# Altium footprint library 2Leonardo_PCB.PcbLib: 26 footprints (part 1 of 2)
Each footprint in its own frame and in the unit in brackets; x right, y up, seen from the top. Pads: shape width x height; smd on the part's side, far side on the other; paste and mask are expansions set on the pad; w line width, h text height; cw(c..) or ccw(c..) is an arc to the next point about the centre after c.
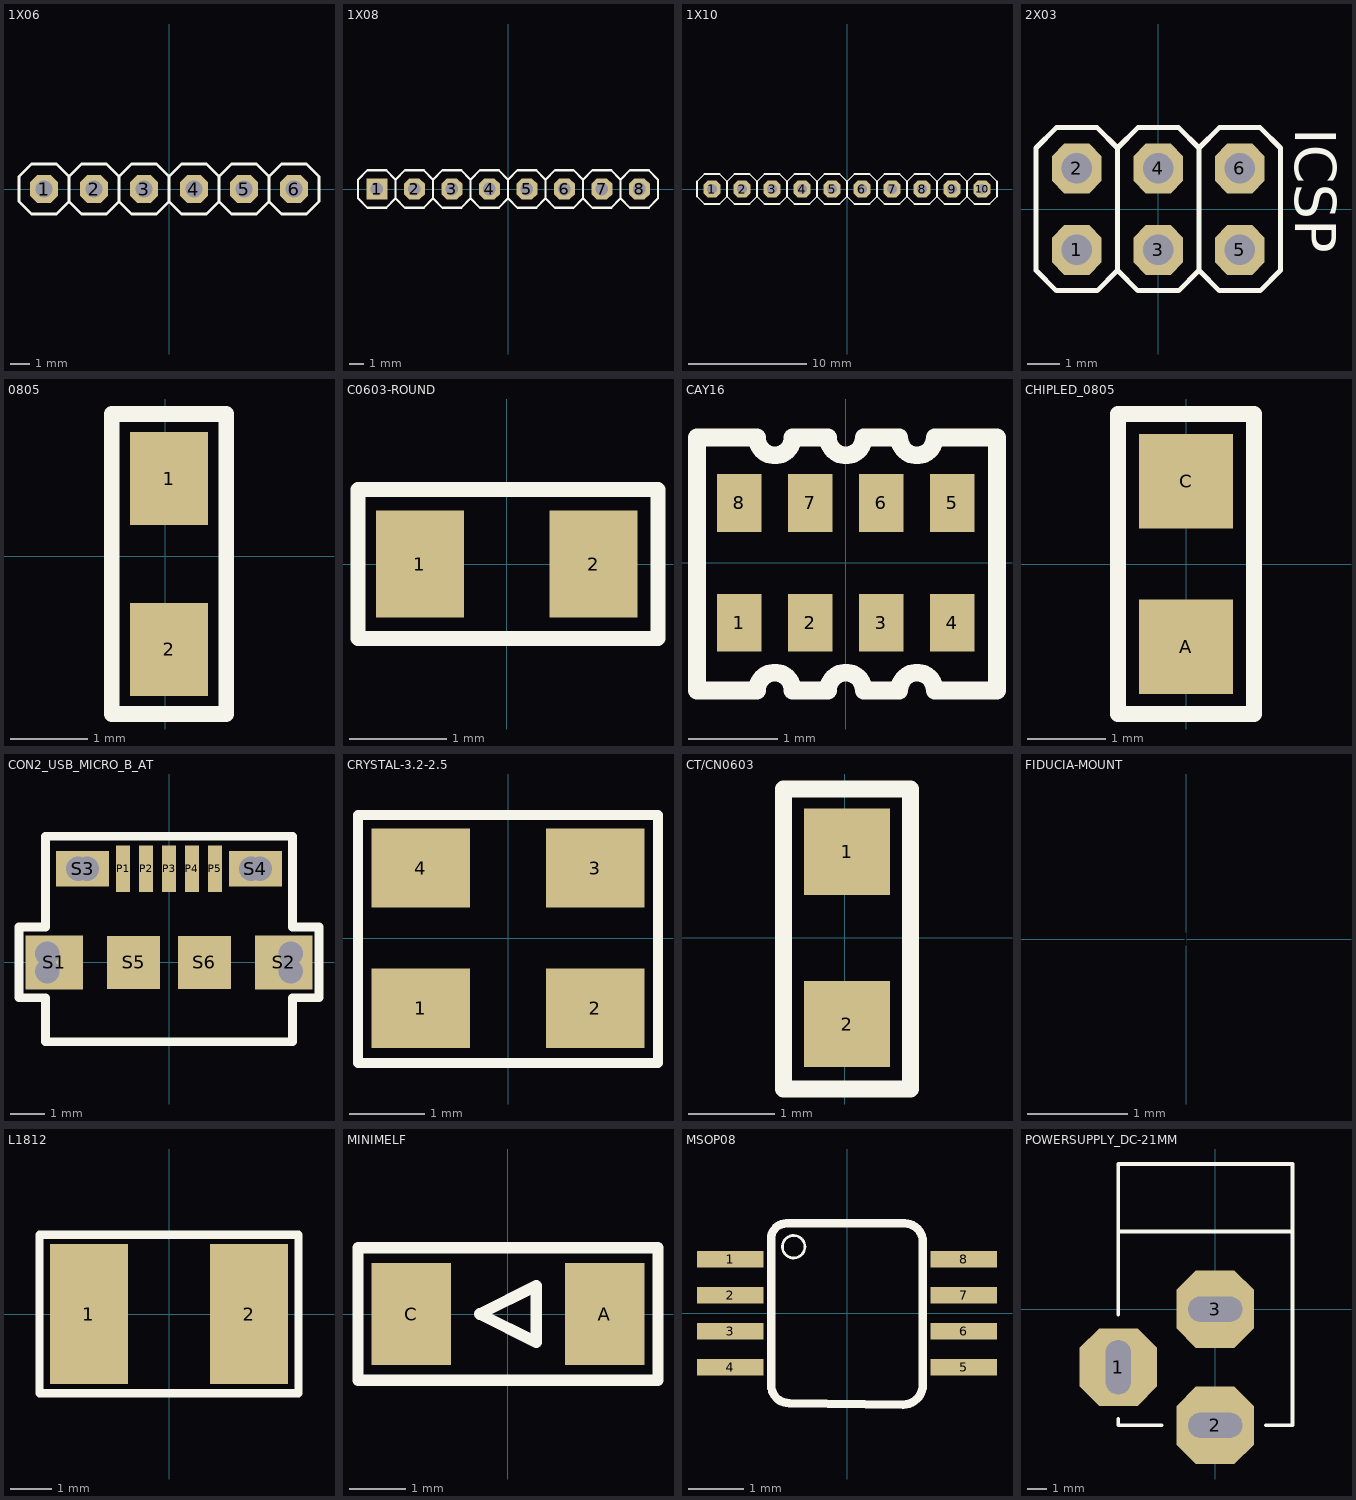
[diagram p0: the footprints below, top view; thin cyan lines are the x and y axes]

## 1X06 [mil]
height 59.06
pads (6):
  oct 56x56 hole 33.46: 1(-250,0) 2(-150,0) 3(-50,0) 4(50,0) 5(150,0) 6(250,0)
Top Overlay:
  rectangle: 140,-10 160,10
  rectangle: 40,-10 60,10
  rectangle: -60,-10 -40,10
  rectangle: -160,-10 -140,10
  rectangle: -260,-10 -240,10
  rectangle: 240,-10 260,10
  lines w6: -200,-25 -200,25 ; -200,-25 -225,-50 -275,-50 -300,-25 -300,25 -275,50 -225,50 -200,25 ; -200,-25 -175,-50 -125,-50 -100,-25 ; -200,25 -175,50 -125,50 -100,25 ; -100,-25 -75,-50 -25,-50 0,-25 ; -100,-25 -100,25 ; -100,25 -75,50 -25,50 0,25 ; 0,-25 0,25 ; 0,-25 25,-50 75,-50 100,-25 ; 0,25 25,50 75,50 100,25 ; 100,-25 100,25 ; 100,-25 125,-50 175,-50 200,-25 ; 100,25 125,50 175,50 200,25 ; 200,-25 200,25 ; 200,-25 225,-50 275,-50 300,-25 300,25 275,50 225,50 200,25
3D body "HDR2.54-1P_M.STEP": height 334.65, standoff -118.11, extent -100,-50 0,50
3D body "HDR2.54-1P_M.STEP": height 334.65, standoff -118.11, extent -300,-50 -200,50
3D body "HDR2.54-1P_M.STEP": height 334.65, standoff -118.11, extent -200,-50 -100,50
3D body "HDR2.54-1P_M.STEP": height 334.65, standoff -118.11, extent 200,-50 300,50
3D body "HDR2.54-1P_M.STEP": height 334.65, standoff -118.11, extent 0,-50 100,50
3D body "HDR2.54-1P_M.STEP": height 334.65, standoff -118.11, extent 100,-50 200,50

## 1X08 [mil]
height 59.06
pads (8):
  rect 56x56 / inner oct 56x56 / far side round 56 hole 33.46: 1(-350,0)
  oct 56x56 hole 33.46: 2(-250,0) 3(-150,0) 4(-50,0) 5(50,0) 6(150,0) 7(250,0) 8(350,0)
Top Overlay:
  rectangle: 340,-10 360,10
  rectangle: -360,-10 -340,10
  rectangle: -260,-10 -240,10
  rectangle: -160,-10 -140,10
  rectangle: -60,-10 -40,10
  rectangle: 40,-10 60,10
  rectangle: 140,-10 160,10
  rectangle: 240,-10 260,10
  lines w6: -300,-25 -275,-50 -225,-50 -200,-25 ; -300,-25 -325,-50 -375,-50 -400,-25 -400,25 -375,50 -325,50 -300,25 ; -300,-25 -300,25 ; -300,25 -275,50 -225,50 -200,25 ; -200,-25 -200,25 ; -200,-25 -175,-50 -125,-50 -100,-25 ; -200,25 -175,50 -125,50 -100,25 ; -100,-25 -75,-50 -25,-50 0,-25 ; -100,-25 -100,25 ; -100,25 -75,50 -25,50 0,25 ; 0,-25 25,-50 75,-50 100,-25 ; 0,-25 0,25 ; 0,25 25,50 75,50 100,25 ; 100,-25 100,25 ; 100,-25 125,-50 175,-50 200,-25 ; 100,25 125,50 175,50 200,25 ; 200,-25 225,-50 275,-50 300,-25 ; 200,-25 200,25 ; 200,25 225,50 275,50 300,25 ; 300,-25 325,-50 375,-50 400,-25 400,25 375,50 325,50 300,25 ; 300,-25 300,25
3D body "HDR2.54-1P_M.STEP": height 334.65, standoff -118.11, extent 300,-50 400,50
3D body "HDR2.54-1P_M.STEP": height 334.65, standoff -118.11, extent -200,-50 -100,50
3D body "HDR2.54-1P_M.STEP": height 334.65, standoff -118.11, extent -400,-50 -300,50
3D body "HDR2.54-1P_M.STEP": height 334.65, standoff -118.11, extent -300,-50 -200,50
3D body "HDR2.54-1P_M.STEP": height 334.65, standoff -118.11, extent 100,-50 200,50
3D body "HDR2.54-1P_M.STEP": height 334.65, standoff -118.11, extent -100,-50 0,50
3D body "HDR2.54-1P_M.STEP": height 334.65, standoff -118.11, extent 0,-50 100,50
3D body "HDR2.54-1P_M.STEP": height 334.65, standoff -118.11, extent 200,-50 300,50

## 1X10 [mil]
height 59.06
pads (10):
  oct 56x56 hole 33.46: 1(-450,0) 2(-350,0) 3(-250,0) 4(-150,0) 5(-50,0) 6(50,0) 7(150,0) 8(250,0) 9(350,0) 10(450,0)
Top Overlay:
  rectangle: 440,-10 460,10
  rectangle: -460,-10 -440,10
  rectangle: -360,-10 -340,10
  rectangle: -260,-10 -240,10
  rectangle: -160,-10 -140,10
  rectangle: -60,-10 -40,10
  rectangle: 40,-10 60,10
  rectangle: 140,-10 160,10
  rectangle: 240,-10 260,10
  rectangle: 340,-10 360,10
  lines w6: -400,-25 -375,-50 -325,-50 -300,-25 ; -400,-25 -425,-50 -475,-50 -500,-25 -500,25 -475,50 -425,50 -400,25 ; -400,-25 -400,25 ; -400,25 -375,50 -325,50 -300,25 ; -300,-25 -300,25 ; -300,-25 -275,-50 -225,-50 -200,-25 ; -300,25 -275,50 -225,50 -200,25 ; -200,-25 -175,-50 -125,-50 -100,-25 ; -200,-25 -200,25 ; -200,25 -175,50 -125,50 -100,25 ; -100,-25 -75,-50 -25,-50 0,-25 ; -100,-25 -100,25 ; -100,25 -75,50 -25,50 0,25 ; 0,-25 0,25 ; 0,-25 25,-50 75,-50 100,-25 ; 0,25 25,50 75,50 100,25 ; 100,-25 125,-50 175,-50 200,-25 ; 100,-25 100,25 ; 100,25 125,50 175,50 200,25 ; 200,-25 225,-50 275,-50 300,-25 ; 200,-25 200,25 ; 200,25 225,50 275,50 300,25 ; 300,-25 300,25 ; 300,-25 325,-50 375,-50 400,-25 ; 300,25 325,50 375,50 400,25 ; 400,-25 425,-50 475,-50 500,-25 500,25 475,50 425,50 400,25 ; 400,-25 400,25
3D body "HDR2.54-1P_M.STEP": height 334.65, standoff -118.11, extent 392,-47 492,53
3D body "HDR2.54-1P_M.STEP": height 334.65, standoff -118.11, extent -508,-47 -408,53
3D body "HDR2.54-1P_M.STEP": height 334.65, standoff -118.11, extent -408,-47 -308,53
3D body "HDR2.54-1P_M.STEP": height 334.65, standoff -118.11, extent -308,-47 -208,53
3D body "HDR2.54-1P_M.STEP": height 334.65, standoff -118.11, extent -208,-47 -108,53
3D body "HDR2.54-1P_M.STEP": height 334.65, standoff -118.11, extent -108,-47 -8,53
3D body "HDR2.54-1P_M.STEP": height 334.65, standoff -118.11, extent -8,-47 92,53
3D body "HDR2.54-1P_M.STEP": height 334.65, standoff -118.11, extent 92,-47 192,53
3D body "HDR2.54-1P_M.STEP": height 334.65, standoff -118.11, extent 192,-47 292,53
3D body "HDR2.54-1P_M.STEP": height 334.65, standoff -118.11, extent 292,-47 392,53

## 2X03 [mm]
height 1.5
pads (6):
  oct 1.55x1.55 hole 0.95: 1(-2.54,-1.27) 2(-2.54,1.27) 3(0,-1.27) 4(0,1.27) 5(2.54,-1.27) 6(2.54,1.27)
Top Overlay:
  rectangle: 2.286,-1.524 2.794,-1.016
  rectangle: 2.286,1.016 2.794,1.524
  rectangle: -0.254,-1.524 0.254,-1.016
  rectangle: -0.254,1.016 0.254,1.524
  rectangle: -2.794,1.016 -2.286,1.524
  rectangle: -2.794,-1.524 -2.286,-1.016
  lines w0.152: -1.27,-1.905 -1.27,1.905 ; -1.27,-1.905 -0.635,-2.54 0.635,-2.54 1.27,-1.905 ; -1.27,-1.905 -1.905,-2.54 -3.175,-2.54 -3.81,-1.905 -3.81,1.905 -3.175,2.54 -1.905,2.54 -1.27,1.905 ; -1.27,1.905 -0.635,2.54 0.635,2.54 1.27,1.905 ; 1.27,-1.905 1.905,-2.54 3.175,-2.54 3.81,-1.905 3.81,1.905 3.175,2.54 1.905,2.54 1.27,1.905 ; 1.27,-1.905 1.27,1.905
  text "ICSP" at 4.268,2.527 h1.27
3D body "HDR2.54-1x2P.STEP": height 8.5, standoff -3, extent -1.27,-2.54 1.27,2.54
3D body "HDR2.54-1x2P.STEP": height 8.5, standoff -3, extent -3.81,-2.54 -1.27,2.54
3D body "HDR2.54-1x2P.STEP": height 8.5, standoff -3, extent 1.27,-2.54 3.81,2.54

## 0805 [mm]
pads (2):
  rect 1x1.2 smd: 1(0.051,0.998) 2(0.051,-1.202)
Top Overlay:
  lines w0.2: -0.686,-2.032 0.787,-2.032 0.787,1.829 -0.686,1.829 -0.686,-2.032
3D body "C 0805.STEP": height 0.51, standoff -0.01, extent -0.559,-1.059 0.661,0.941

## C0603-ROUND [mm]
height 1.5
pads (2):
  rect 0.898x1.1 smd: 1(-0.889,0) 2(0.889,0)
Top Overlay:
  lines w0.152: -1.524,-0.762 -1.524,0.762 1.549,0.762 1.549,-0.762 -1.524,-0.762
3D body "C 0603.STEP": height 0.81, standoff -0.01, extent -0.775,-0.41 0.825,0.41

## CAY16 [mm]
height 1.5
pads (8):
  rect 0.5x0.65 smd: 1(-1.2,-0.675) 2(-0.4,-0.675) 3(0.4,-0.675) 4(1.2,-0.675) 5(1.2,0.675) 6(0.4,0.675) 7(-0.4,0.675) 8(-1.2,0.675)
Top Overlay:
  lines w0.2: 0.2,-1.436 ccw(c0,-1.436) -0.2,-1.436 -0.6,-1.436 ccw(c-0.8,-1.436) -1,-1.436 -1.55,-1.436 -1.676,-1.436 -1.676,1.41 -1.55,1.41 -1,1.41 ccw(c-0.8,1.41) -0.6,1.41 -0.2,1.41 ccw(c0,1.41) 0.2,1.41 ; 0.2,-1.436 0.6,-1.436 ; 0.2,1.41 0.6,1.41 ; 0.6,-1.436 cw(c0.8,-1.436) 1,-1.436 1.55,-1.436 1.702,-1.436 1.702,1.41 1.55,1.41 1,1.41 cw(c0.8,1.41) 0.6,1.41
3D body "1206-4Way.STEP": height 0.5, standoff 0, extent -1.6,-0.8 1.6,0.8

## CHIPLED_0805 [mm]
height 1.5
pads (2):
  rect 1.2x1.2 smd: A(0,-1.05) C(0,1.05)
Top Overlay:
  lines w0.2: -0.864,-1.905 -0.864,1.905 0.864,1.905 0.864,-1.905 -0.864,-1.905
3D body "LED 0805-G.STEP": height 0.67, standoff 0, extent -0.626,-1.22 0.626,0.78

## CON2_USB_MICRO_B_AT [mil]
height 59.06
pads (19):
  rect 16x53 smd: P1(-52,106) P2(-26,106) P3(0,106) P4(26,106) P5(52,106)
  rect 65x61 smd: S1(-130,0) S2(130,0)
  rect 60x40 smd: S3(-98,106) S4(98,106)
  rect 60x60 smd: S5(-40,0) S6(40,0)
  round 0 hole 27.56 unplated: ""(-138,-10) ""(-138,10) ""(-103,106) ""(-93,106) ""(93,106) ""(103,106) ""(138,-10) ""(138,10)
Top Overlay:
  lines w10: -170,-40 -170,40 -140,40 -140,143 140,143 140,40 170,40 170,-40 140,-40 140,-90 -140,-90 -140,-40 -170,-40
3D body "Micro-USB-SMD.STEP": height 109.06, standoff -6.69, extent -157.09,-77.78 157.09,136

## CRYSTAL-3.2-2.5 [mm]
height 1.5
pads (4):
  rect 1.3x1.05 smd: 1(-1.15,-0.925) 2(1.15,-0.925) 3(1.15,0.925) 4(-1.15,0.925)
Top Overlay:
  lines w0.127: -1.981,-1.651 -1.981,1.626 1.981,1.626 1.981,-1.651 -1.981,-1.651
3D body "XTAL-OSC-3225.STEP": height 1.1, standoff 0, extent -1.65,-1.3 1.65,1.3

## CT/CN0603 [mm]
height 1.5
pads (2):
  rect 1x1 smd: 1(0.025,1) 2(0.025,-1)
Top Overlay:
  lines w0.2: -0.711,-1.753 -0.711,1.727 0.762,1.727 0.762,-1.753 -0.711,-1.753
3D body "C 0603.STEP": height 0.81, standoff -0.01, extent -0.385,-0.936 0.435,0.664

## FIDUCIA-MOUNT [mil]
height 59.06
pads (1):
  round 40 on Top Solder: 1(0,0)
Top Solder:
  circle w5: c0,0 r59.06
  circle w86: c0,0 r19.68

## L1812 [mm]
height 1.5
pads (2):
  rect 1.9x3.4 smd: 1(-1.95,0) 2(1.95,0)
Top Overlay:
  lines w0.2: -3.15,-1.93 3.15,-1.93 3.15,1.93 -3.15,1.93 -3.15,-1.93
3D body "1812.STEP": height 1.5, standoff 0, extent -2.225,-1.575 2.275,1.625

## MINIMELF [mm]
height 1.5
pads (2):
  rect 1.4x1.8 smd: A(1.7,0) C(-1.7,0)
Top Overlay:
  lines w0.2: -2.642,-1.168 -2.642,1.168 2.642,1.168 2.642,-1.168 -2.642,-1.168
  lines w0.203: -0.5,0 0.5,-0.5 0.5,0.5 -0.5,0
3D body "FU 01206.STEP": height 0.87, standoff 0, extent -1.614,-0.81 1.586,0.81

## MSOP08 [mm]
height 1.5
pads (8):
  rect 1.2x0.3 smd: 1(-2.113,0.975) 2(-2.113,0.325) 3(-2.113,-0.325) 4(-2.113,-0.975) 5(2.113,-0.975) 6(2.113,-0.325) 7(2.113,0.325) 8(2.113,0.975)
Top Overlay:
  circle w0.051: c-0.965,1.203 r0.203
  lines w0.152: -1.371,-1.3 ccw(c-1.046,-1.3) -1.046,-1.625 1.016,-1.651 ccw(c1.016,-1.296) 1.371,-1.296 1.371,-1.204 1.371,1.203 1.371,1.3 ccw(c1.045,1.3) 1.045,1.625 -1.1,1.625 ccw(c-1.1,1.353) -1.371,1.353 -1.371,0.845 -1.371,-1.204 -1.371,-1.3
3D body "LM358-MSOP8.STEP": height 1.8, standoff 0.64, extent -2.45,-1.5 2.45,1.5

## POWERSUPPLY_DC-21MM [mm]
height 1.5
pads (3):
  oct 4x4 hole 1.3 slot 2.794 at 90 deg: 1(-5.004,-2.997)
  oct 4x4 hole 1.3 slot 2.794 at 0 deg: 2(0,-5.994) 3(0,0)
Top Overlay:
  lines w0.2: -5.004,-5.677 -5.004,-5.994 -2.781,-5.994 ; -5.004,-0.279 -5.004,7.493 3.988,7.493 3.988,4.013 ; -4.978,4.013 3.988,4.013 ; 2.616,-5.994 3.988,-5.994 3.988,4.013
3D body "dc-005.STEP": height 11.2, standoff -3.8, extent -5.029,-6.395 4.271,7.655